# Altium footprint library Wire to Board.PcbLib: 28 footprints (part 2 of 2)
Each footprint in its own frame and in the unit in brackets; x right, y up, seen from the top. Pads: shape width x height; smd on the part's side, far side on the other; paste and mask are expansions set on the pad; w line width, h text height; cw(c..) or ccw(c..) is an arc to the next point about the centre after c.
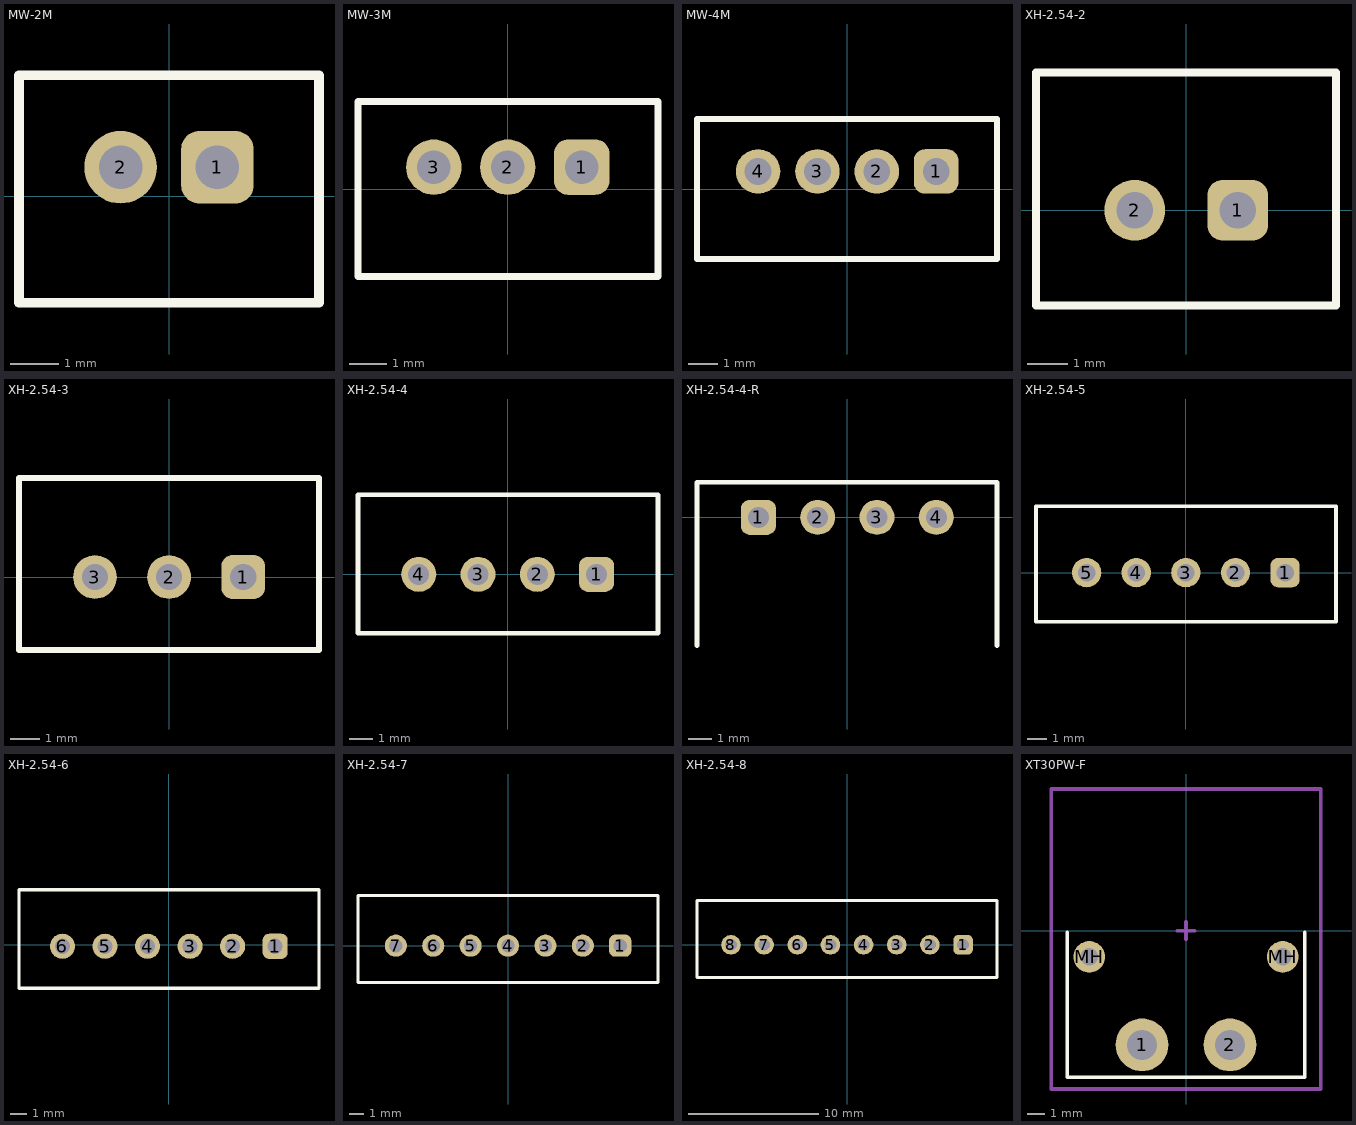
[diagram p1: the footprints below, top view; thin cyan lines are the x and y axes]

## MW-2M [mm] "Connector; Header; 2 Position"
height 6
pads (2):
  rrect50% 1.5x1.5 hole 0.9: 1(1,0.6)
  round 1.5 hole 0.9: 2(-1,0.6)
Top Overlay:
  lines w0.2: -3.1,-2.2 3.1,-2.2 3.1,2.5 -3.1,2.5 -3.1,-2.2
3D body "User Library-mw-2m-1.step": height 6, standoff -3.2, extent -3,-2.1 3,2.4

## MW-3M [mm] "Connector; Header; 3 Position"
height 6
pads (3):
  rrect50% 1.5x1.5 hole 0.9: 1(2,0.6)
  round 1.5 hole 0.9: 2(0,0.6) 3(-2,0.6)
Top Overlay:
  lines w0.2: -4.051,-2.357 -4.051,2.374 4.064,2.374 4.064,-2.357 -4.051,-2.357
3D body "User Library-BxB-PH.step": height 6.1, standoff -3.2, extent -3.95,-2.25 3.95,2.25

## MW-4M [mm] "Connector; Header; 4 Position"
height 6
pads (4):
  rrect50% 1.5x1.5 hole 0.9: 1(3,0.6)
  round 1.5 hole 0.9: 2(1,0.6) 3(-1,0.6) 4(-3,0.6)
Top Overlay:
  lines w0.2: -5.057,-2.355 -5.057,2.374 5.052,2.374 5.052,-2.355 -5.057,-2.355
3D body "User Library-BxB-PH.step": height 6.1, standoff -3.2, extent -4.95,-2.25 4.95,2.25

## XH-2.54-2 [mm] "Connector; Header; 2 Position"
height 7
pads (2):
  rrect50% 1.5x1.5 hole 0.9: 1(1.27,0)
  round 1.5 hole 0.9: 2(-1.27,0)
Top Overlay:
  lines w0.2: -3.71,3.4 -3.71,-2.35 3.69,-2.35 ; -3.7,3.4 3.7,3.4 3.7,-2.35
3D body "User Library-XH2_54-2P.STEP": height 7, standoff -2.5, extent -3.77,-2.4 3.77,3.3

## XH-2.54-3 [mm] "Connector; Header; 3 Position"
height 7
pads (3):
  rrect50% 1.5x1.5 hole 0.9: 1(2.54,0)
  round 1.5 hole 0.9: 2(0,0) 3(-2.54,0)
Top Overlay:
  lines w0.2: -5.143,-2.504 5.137,-2.504 5.137,3.397 -5.143,3.397 -5.143,-2.504
3D body "User Library-XH2_54-3P-1.STEP": height 7, standoff -2.5, extent -5.04,-2.4 5.04,3.3

## XH-2.54-4 [mm] "Connector; Header; 3 Position"
height 7
pads (4):
  rrect50% 1.5x1.5 hole 0.9: 1(3.81,0)
  round 1.5 hole 0.9: 2(1.27,0) 3(-1.27,0) 4(-3.81,0)
Top Overlay:
  lines w0.2: -6.413,-2.52 6.442,-2.52 6.442,3.407 -6.413,3.407 -6.413,-2.52
3D body "User Library-XH2_54-4P.STEP": height 7, standoff -2.5, extent -6.31,-2.4 6.31,3.3

## XH-2.54-4-R [mm] "Connector; Header; 3 Position; Right angle"
height 7
pads (4):
  rrect50% 1.5x1.5 hole 0.9: 1(-3.81,0)
  round 1.5 hole 0.9: 2(-1.27,0) 3(1.27,0) 4(3.81,0)
Top Overlay:
  lines w0.2: -6.442,-5.5 -6.442,1.5 6.413,1.5 6.413,-5.5
3D body "User Library-XH2_54-4P-AW.step": height 5.9, standoff -3, extent -6.25,-7.3 6.25,0.3

## XH-2.54-5 [mm] "Connector; Header; 3 Position"
height 7
pads (5):
  rrect50% 1.5x1.5 hole 0.9: 1(5.08,0)
  round 1.5 hole 0.9: 2(2.54,0) 3(0,0) 4(-2.54,0) 5(-5.08,0)
Top Overlay:
  lines w0.2: -7.674,-2.518 7.687,-2.518 7.687,3.4 -7.674,3.4 -7.674,-2.518
3D body "User Library-XH2_54-5P-2.STEP": height 7, standoff -2.5, extent -7.58,-2.4 7.58,3.3

## XH-2.54-6 [mm] "Connector; Header; 3 Position"
height 7
pads (6):
  rrect50% 1.5x1.5 hole 0.9: 1(6.37,-0.1)
  round 1.5 hole 0.9: 2(3.83,-0.1) 3(1.29,-0.1) 4(-1.25,-0.1) 5(-3.79,-0.1) 6(-6.33,-0.1)
Top Overlay:
  lines w0.2: -8.927,-2.617 8.986,-2.617 8.986,3.285 -8.927,3.285 -8.927,-2.617
3D body "User Library-XH2_54-6P.STEP": height 7, standoff -2.5, extent -8.83,-2.5 8.87,3.2

## XH-2.54-7 [mm] "Connector; Header; 3 Position"
height 7
pads (7):
  rrect50% 1.5x1.5 hole 0.9: 1(7.62,0)
  round 1.5 hole 0.9: 2(5.08,0) 3(2.54,0) 4(0,0) 5(-2.54,0) 6(-5.08,0) 7(-7.62,0)
Top Overlay:
  lines w0.2: -10.187,-2.491 -10.187,3.4 10.184,3.4 10.184,-2.491 -10.187,-2.491
3D body "User Library-XH2_54-7P.STEP": height 7, standoff -2.5, extent -10.12,-2.4 10.12,3.3

## XH-2.54-8 [mm] "Connector; Header; 3 Position"
height 7
pads (8):
  rrect50% 1.5x1.5 hole 0.9: 1(8.89,0)
  round 1.5 hole 0.9: 2(6.35,0) 3(3.81,0) 4(1.27,0) 5(-1.27,0) 6(-3.81,0) 7(-6.35,0) 8(-8.89,0)
Top Overlay:
  lines w0.2: -11.494,-2.511 11.491,-2.511 11.491,3.395 -11.494,3.395 -11.494,-2.511
3D body "User Library-XH2_54-8P.STEP": height 7, standoff -2.5, extent -11.39,-2.4 11.39,3.3

## XT30PW-F [mm] "DC supply; socket; female; XT30; 15A; 500V; PIN: 2; THT"
height 5
pads (4):
  round 3 hole 1.7 mask+0.05: 1(-2.5,-6.5) 2(2.5,-6.5)
  round 1.8 hole 1 mask+0.05: MH(-5.5,-1.5) MH(5.5,-1.5)
Top Overlay:
  lines w0.2: -6.74,-0.1 -6.74,-8.35 -2.5,-8.35 6.74,-8.35 6.74,-0.1
Mechanical 15:
  lines w0.2: -0.5,0 0.5,0 ; 0,-0.5 0,0.5 ; -7.65,-9.01 7.65,-9.01 7.65,8.05 -7.65,8.05 -7.65,-9.01
3D body "XT30PW-F.stp": height 5.3, standoff -1.88, extent -6.65,-7.455 6.65,7.44